# EAGLE library part NA555_P_8 (library purdue_cs250)
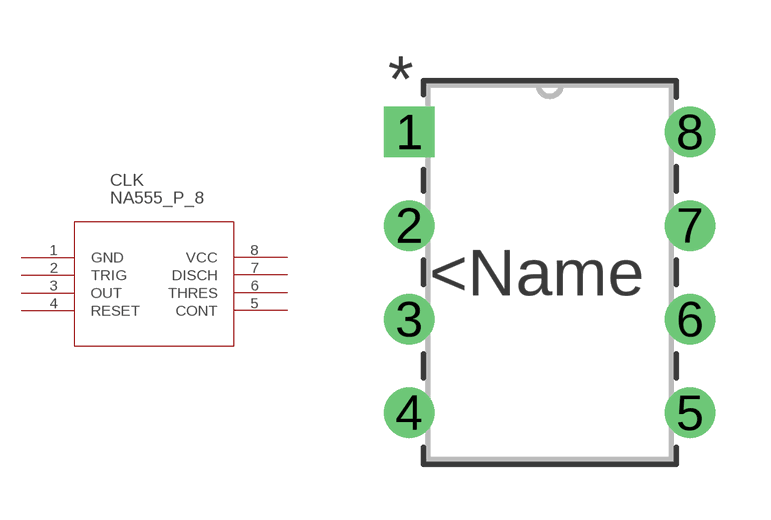
[diagram p4: symbol with the pads of P8; footprint P8]

Designator prefix CLK

## NA555_P_8 (MANUFACTURER_PART_NUMBER: na555_p_8; VENDOR: Texas Instruments)  [P8]
1  GND  pwr
2  TRIG  pas
3  OUT  out
4  RESET  pas
5  CONT  pas
6  THRES  pas
7  DISCH  pas
8  VCC  pwr

## Footprint P8 (pad centres in mm)
drill 0.864 pad 1.372 square: 1 -7.62,7.62
drill 0.864 pad 1.372: 2 -7.62,5.08; 3 -7.62,2.54; 4 -7.62,0; 5 0,0; 6 0,2.54; 7 0,5.08; 8 0,7.62